# Altium schematic symbol library TF-01A.SchLib: 1 symbol
Pins are listed as number, name and electrical type; pins without a type are passive.

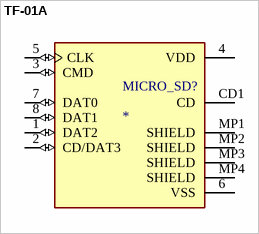
[diagram p0: symbol TF-01A]

## TF-01A
designator MICRO_SD?
<b>Connector - Card Sockets 8 1.1mm SMD RoHS</b><p> Source: <a href="https://datasheet.lcsc.com/szlcsc/1903221101_Korean-Hroparts-Elec-TF-01A_C91145.pdf"> Datasheet </a>; MP: TF-01A; MF: {'manufacturer': u'HRO Electronics Co., Ltd.'}; Availability: Unavailable; Price: None; Package: None; Value: *
footprint TF-01A
pins: 1 DAT2 (io), 2 CD/DAT3 (io), 3 CMD (io), 4 VDD (power), 5 CLK (io), 6 VSS (power), 7 DAT0 (io), 8 DAT1 (io), CD1 CD, MP1 SHIELD (power), MP2 SHIELD (power), MP3 SHIELD (power), MP4 SHIELD (power)